# EAGLE library part 3020-16-0300-00 (library TIparts)
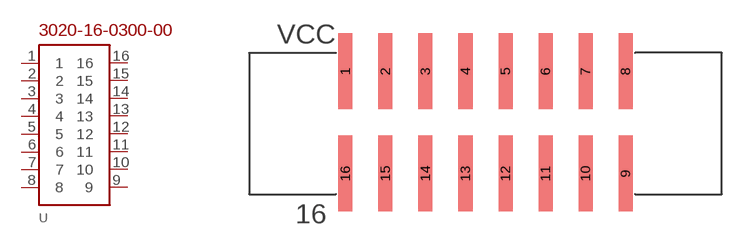
[diagram p3: symbol with the pads of 8X2_SMD_HEADER; footprint 8X2_SMD_HEADER]

Designator prefix -

## 3020-16-0300-00  [8X2_SMD_HEADER]
1  1
2  2
3  3
4  4
5  5
6  6
7  7
8  8
9  9
10  10
11  11
12  12
13  13
14  14
15  15
16  16

## Footprint 8X2_SMD_HEADER (pad centres in mm)
smd 0.89 x 4.8: 1 -8.89,3.325; 2 -6.35,3.325; 3 -3.81,3.325; 4 -1.27,3.325; 5 1.27,3.325; 6 3.81,3.325; 7 6.35,3.325; 8 8.89,3.325; 9 8.89,-3.175; 10 6.35,-3.175; 11 3.81,-3.175; 12 1.27,-3.175; 13 -1.27,-3.175; 14 -3.81,-3.175; 15 -6.35,-3.175; 16 -8.89,-3.175